# EAGLE library part RM84 (library cruz_technologies)
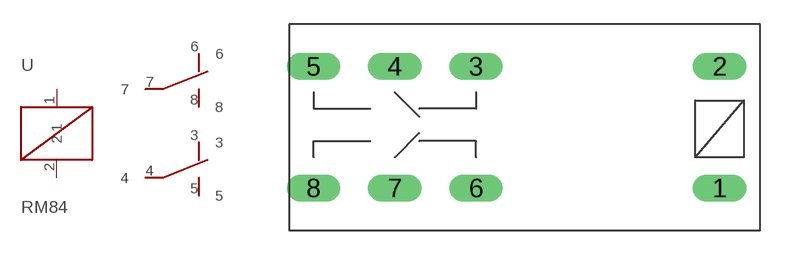
[diagram p10: symbol with the pads of RM84; footprint RM84]

Designator prefix -

## RM84  [RM84]
1  1
2  2
3  3
4  4
5  5
6  6
7  7
8  8

## Footprint RM84 (pad centres in mm)
drill 1.1 pad 1.422 long: 1 26.5,2.6; 2 26.5,10.1; 3 11.5,10.1; 4 6.5,10.1; 5 1.5,10.1; 6 11.5,2.6; 7 6.5,2.6; 8 1.5,2.6